# Altium schematic symbol library EL-sense_Isolator.SchLib: 5 symbols
Pins are listed as number, name and electrical type; pins without a type are passive.

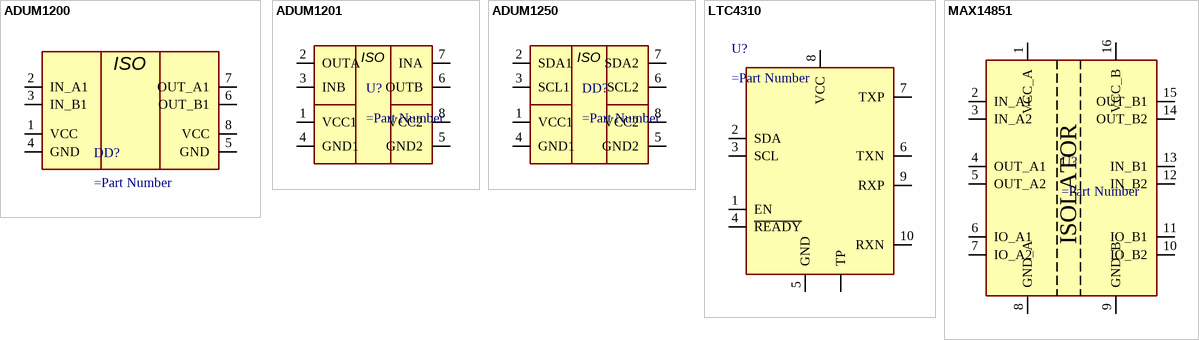
[diagram p0: symbols ADUM1200 to MAX14851]

## ADUM1200
designator DD?
pins: 1 VCC, 2 IN_A1, 3 IN_B1, 4 GND, 5 GND, 6 OUT_B1, 7 OUT_A1, 8 VCC
text: ISO

## ADUM1201
designator U?
pins: 1 VCC1, 2 OUTA, 3 INB, 4 GND1, 5 GND2, 6 OUTB, 7 INA, 8 VCC2
text: ISO

## ADUM1250
designator DD?
pins: 1 VCC1, 2 SDA1, 3 SCL1, 4 GND1, 5 GND2, 6 SCL2, 7 SDA2, 8 VCC2
text: ISO

## LTC4310
designator U?
pins: 1 EN, 2 SDA, 3 SCL, 4 ~{READY}, 5 GND, 6 TXN, 7 TXP, 8 VCC, 9 RXP, 10 RXN, TP

## MAX14851
designator U?
pins: 1 VCC_A, 2 IN_A1, 3 IN_A2, 4 OUT_A1, 5 OUT_A2, 6 IO_A1, 7 IO_A2, 8 GND_A, 9 GND_B, 10 IO_B2, 11 IO_B1, 12 IN_B2, 13 IN_B1, 14 OUT_B2, 15 OUT_B1, 16 VCC_B
text: ISOLATOR